# EAGLE library part 503398-1892_503398-1892 (library ROSPIN School Payload)
1.10mm Pitch microSD Memory Card Connector, Normal Mount Surface Mount, Push-Push Type, 1.28mm Height Check availability <https://pricing.snapeda.com/parts/5033981892/Molex/view-part?ref=eda>
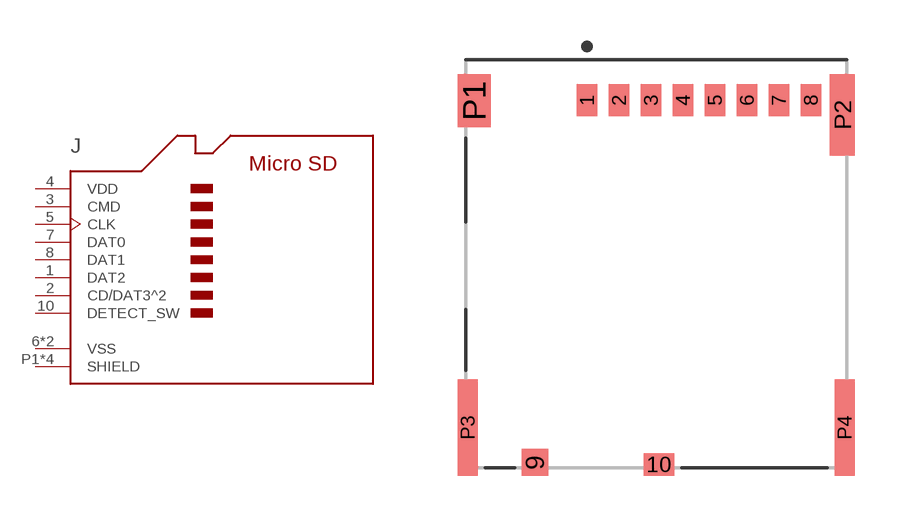
[diagram p0: symbol with the pads of 503398-1892_MOLEX_503398-1892; footprint 503398-1892_MOLEX_503398-1892]

Designator prefix J

## 503398-1892_503398-1892 (AVAILABILITY: In Stock; DESCRIPTION: 9 (8 + 1) Position Card Connector Secure Digital - microSD™ Surface Mount, Right Angle Gold; MF: Molex; MP: 5033981892; PACKAGE: None; PRICE: None; PURCHASE-URL: https://pricing.snapeda.com/search/part/5033981892/?ref=eda)  [503398-1892_MOLEX_503398-1892]
1  DAT2
2  CD/DAT3^2
3  CMD
4  VDD
5  CLK
6  VSS
7  DAT0
8  DAT1
9  VSS
10  DETECT_SW
P1  SHIELD
P2  SHIELD
P3  SHIELD
P4  SHIELD

## Footprint 503398-1892_MOLEX_503398-1892 (pad centres in mm)
smd 0.7 x 1.1: 1 -2.38,5.625; 2 -1.28,5.625; 3 -0.18,5.625; 4 0.92,5.625; 5 2.02,5.625; 6 3.12,5.625; 7 4.22,5.625; 8 5.32,5.625
smd 0.9 x 0.93: 9 -4.17,-6.84
smd 1.05 x 0.78: 10 0.095,-6.915
smd 1.14 x 1.83: P1 -6.26,5.61
smd 0.86 x 2.8: P2 6.4,5.125
smd 0.7 x 3.33: P3 -6.48,-5.64; P4 6.48,-5.64